# Altium schematic symbol library Control_Board.SchLib: 9 symbols
Pins are listed as number, name and electrical type; pins without a type are passive.

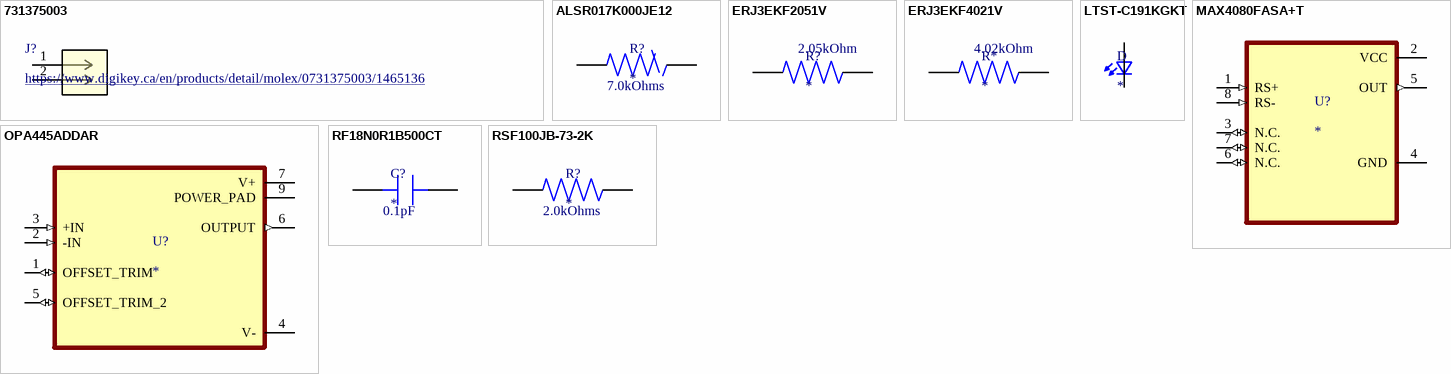
[diagram p0: symbols 731375003 to RSF100JB-73-2K]

## 731375003
designator J?, comment https://www.digikey.ca/en/products/detail/molex/0731375003/1465136
Mfr_Name: Molex Connector Corporation; Copyright: Copyright (C) 2022 Ultra Librarian. All rights reserved.; Manufacturer_Part_Number: 731375003; RefDes: RefDes; Type: DEV
footprint CONN_73137-5003_MOL
pins: 1, 2

## ALSR017K000JE12
designator R?  value 7.0kOhms
7 kOhms ±5% 1W Through Hole Resistor Axial Moisture Resistant Wirewound; Seller Part Number: ALSR1J-7.0K-ND; Manufacturer: Vishay Dale; Manufacturer Product Number: ALSR017K000JE12
footprint Thru Hole Resistor
pins: 1, 2

## ERJ3EKF2051V
designator R?
JLCPCB Part #: C403060
footprint 0603
pins: 1, 2
text: 2.05kOhm

## ERJ3EKF4021V
designator R*
JLCPCB Part #: C242164
footprint 0603
pins: 1, 2
text: 4.02kOhm

## LTST-C191KGKT
designator D
Green 571nm LED Indication - Discrete 2V 0603 _1608 Metric_; MF: Lite-On Inc.; MP: LTST-C191KGKT; Package: 0603 Lite-On; Price: None; Availability: Unavailable; SnapEDA_Link: https://www.snapeda.com/parts/LTST-C191KGKT/Lite-On%20Inc./view-part/48565/?ref=snap; Value: *
footprint 0603
pins: 1 K2, 2 A2

## MAX4080FASA+T
designator U?
Current Sense Amplifier 1 Circuit - 8-SOIC; MF: Maxim Integrated; MP: MAX4080FASA+T; Availability: In Stock; SnapEDA_Link: https://www.snapeda.com/parts/MAX4080FASA+T/Maxim+Integrated/view-part/?ref=snap; Check_prices: https://www.snapeda.com/parts/MAX4080FASA+T/Maxim+Integrated/view-part/?ref=eda; Price: None; Value: *; Package: SOIC-8 Maxim; Purchase-URL: https://pricing.snapeda.com/search/part/MAX4080FASA+T/?ref=eda
footprint 8-SOIC (0.154", 3.90mm Width)
pins: 1 RS+ (in), 2 VCC (power), 3 N.C. (io), 4 GND (power), 5 OUT (out), 6 N.C. (io), 7 N.C. (io), 8 RS- (in)

## OPA445ADDAR
designator U?
MP: OPA445ADDAR; Package: None; Price: None; Value: *; Availability: Unavailable; JLCPCB Part #: C1348607
footprint VREG_LM5017MR/NOPB
pins: 1 OFFSET_TRIM (io), 2 -IN (in), 3 +IN (in), 4 V- (power), 5 OFFSET_TRIM_2 (io), 6 OUTPUT (out), 7 V+ (power), 9 POWER_PAD (power)

## RF18N0R1B500CT
designator C?
JLCPCB Part #: C304680
footprint 0603
pins: 1, 2
text: 0.1pF

## RSF100JB-73-2K
designator R?  value 2.0kOhms
2 kOhms ±5% 1W Through Hole Resistor Axial Flame Proof, Safety Metal Oxide Film; Seller Part Number: 2.0KW-1-ND; Manufacturer: YAGEO; Manufacturer Product Number: RSF100JB-73-2K
footprint Thru Hole Resistor
pins: 1, 2